# EAGLE library part LTC3835 (library PowerProducts)
LT-Spice library generated with : ltspice.ulp from: D:/Program Files (x86)/LTC/LTspiceIV/lib/sym/PowerProducts/LTC3836*.asy at 07.10.2012 18:39:33
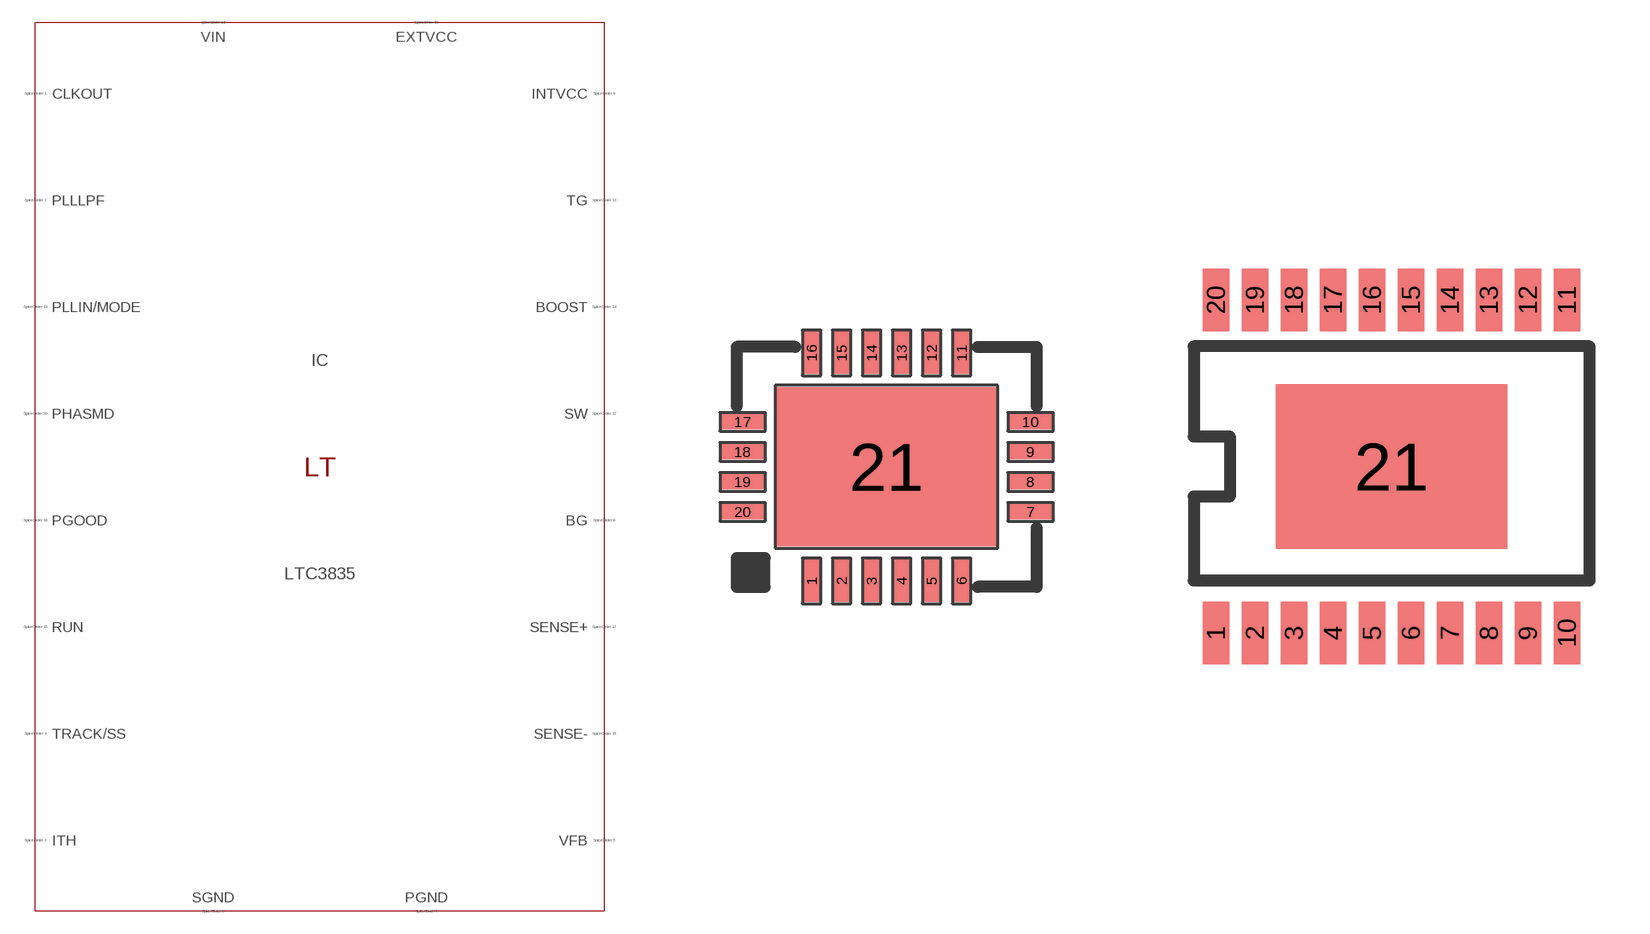
[diagram p360: symbol with the pads of QFN20(UFD); footprints QFN20(UFD), TSSOP20CB(FE)]

Designator prefix IC

## LTC3835UFD (SPICEMODEL: LTC3835.sub; SPICEPREFIX: X; VALUE2: LTC3835)  [QFN20(UFD)]
1  ITH  pas
2  TRACK/SS  pas
3  VFB  pas
4  SGND  pas
5  PGND  pas
6  BG  pas
7  INTVCC  pas
8  EXTVCC  pas
9  VIN  pas
10  SW  pas
11  TG  pas
12  BOOST  pas
13  RUN  pas
14  SENSE-  pas
15  SENSE+  pas
16  PGOOD  pas
17  PLLIN/MODE  pas
18  PHASMD  pas
19  CLKOUT  pas
20  PLLLPF  pas
21  SGND  pas

## LTC3835 (SPICEMODEL: LTC3835.sub; SPICEPREFIX: X; VALUE2: LTC3835)  [TSSOP20CB(FE)]
1  CLKOUT  pas
2  PLLLPF  pas
3  ITH  pas
4  TRACK/SS  pas
5  VFB  pas
6  SGND  pas
7  PGND  pas
8  BG  pas
9  INTVCC  pas
10  EXTVCC  pas
11  VIN  pas
12  SW  pas
13  TG  pas
14  BOOST  pas
15  RUN  pas
16  SENSE-  pas
17  SENSE+  pas
18  PGOOD  pas
19  PLLIN/MODE  pas
20  PHASMD  pas
21  SGND  pas

## Footprint QFN20(UFD) (pad centres in mm)
Package generated from: QFN20(UFD).asc (!PADS-POWERPCB-V9.3-BASIC! DESIGN DATABASE ASCII FILE 1.0) with :import-pads-powerpcb-v5.ulp Version 1.0.1 at 04.10.2012 14:11:24
smd 0.375 x 1.05: 1 -1.875,-2.85; 2 -1.125,-2.85; 3 -0.375,-2.85; 4 0.375,-2.85; 5 1.125,-2.85; 6 1.875,-2.85; 11 1.875,2.85; 12 1.125,2.85; 13 0.375,2.85; 14 -0.375,2.85; 15 -1.125,2.85; 16 -1.875,2.85
smd 1.05 x 0.375: 7 3.6,-1.125; 8 3.6,-0.375; 9 3.6,0.375; 10 3.6,1.125; 17 -3.6,1.125; 18 -3.6,0.375; 19 -3.6,-0.375; 20 -3.6,-1.125
smd 5.475 x 3.975: 21 0,0

## Footprint TSSOP20CB(FE) (pad centres in mm)
Package generated from: TSSOP20CB(FE).asc (!PADS-POWERPCB-V5.0-BASIC! DESIGN DATABASE ASCII FILE 1.0) with :import-pads-powerpcb-v5.ulp Version 1.0.1 at 04.10.2012 14:11:40
smd 0.66 x 1.575: 1 -4.388,-4.162; 2 -3.413,-4.162; 3 -2.438,-4.162; 4 -1.462,-4.162; 5 -0.487,-4.162; 6 0.487,-4.162; 7 1.462,-4.162; 8 2.438,-4.162; 9 3.413,-4.162; 10 4.388,-4.162; 11 4.388,4.162; 12 3.413,4.162; 13 2.438,4.162; 14 1.462,4.162; 15 0.487,4.162; 16 -0.487,4.162; 17 -1.462,4.162; 18 -2.438,4.162; 19 -3.413,4.162; 20 -4.388,4.162
smd 5.79 x 4.11: 21 0,0